# Altium schematic symbol library SI LABS EFM32TG230.SchLib: 1 symbol
Pins are listed as number, name and electrical type; pins without a type are passive.

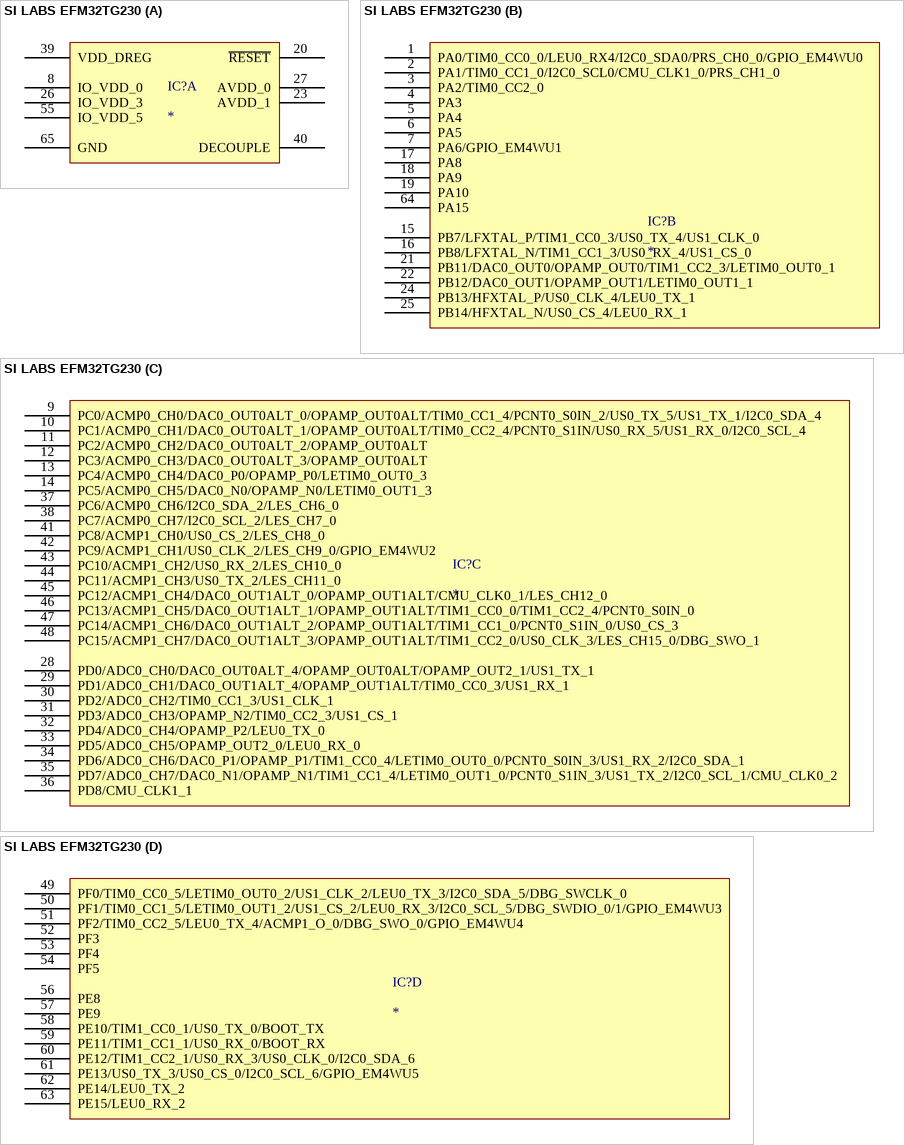
[diagram p0: symbol SI LABS EFM32TG230]

## SI LABS EFM32TG230
designator IC?
part A pins: 8 IO_VDD_0, 20 ~{RESET}, 23 AVDD_1, 26 IO_VDD_3, 27 AVDD_0, 39 VDD_DREG , 40 DECOUPLE, 55 IO_VDD_5, 65 GND
part B pins: 1 PA0/TIM0_CC0_0/LEU0_RX4/I2C0_SDA0/PRS_CH0_0/GPIO_EM4WU0, 2 PA1/TIM0_CC1_0/I2C0_SCL0/CMU_CLK1_0/PRS_CH1_0, 3 PA2/TIM0_CC2_0, 4 PA3, 5 PA4, 6 PA5, 7 PA6/GPIO_EM4WU1, 15 PB7/LFXTAL_P/TIM1_CC0_3/US0_TX_4/US1_CLK_0, 16 PB8/LFXTAL_N/TIM1_CC1_3/US0_RX_4/US1_CS_0, 17 PA8, 18 PA9, 19 PA10, 21 PB11/DAC0_OUT0/OPAMP_OUT0/TIM1_CC2_3/LETIM0_OUT0_1, 22 PB12/DAC0_OUT1/OPAMP_OUT1/LETIM0_OUT1_1, 24 PB13/HFXTAL_P/US0_CLK_4/LEU0_TX_1, 25 PB14/HFXTAL_N/US0_CS_4/LEU0_RX_1, 64 PA15
part C pins: 9 PC0/ACMP0_CH0/DAC0_OUT0ALT_0/OPAMP_OUT0ALT/TIM0_CC1_4/PCNT0_S0IN_2/US0_TX_5/US1_TX_1/I2C0_SDA_4, 10 PC1/ACMP0_CH1/DAC0_OUT0ALT_1/OPAMP_OUT0ALT/TIM0_CC2_4/PCNT0_S1IN/US0_RX_5/US1_RX_0/I2C0_SCL_4, 11 PC2/ACMP0_CH2/DAC0_OUT0ALT_2/OPAMP_OUT0ALT, 12 PC3/ACMP0_CH3/DAC0_OUT0ALT_3/OPAMP_OUT0ALT, 13 PC4/ACMP0_CH4/DAC0_P0/OPAMP_P0/LETIM0_OUT0_3, 14 PC5/ACMP0_CH5/DAC0_N0/OPAMP_N0/LETIM0_OUT1_3, 28 PD0/ADC0_CH0/DAC0_OUT0ALT_4/OPAMP_OUT0ALT/OPAMP_OUT2_1/US1_TX_1, 29 PD1/ADC0_CH1/DAC0_OUT1ALT_4/OPAMP_OUT1ALT/TIM0_CC0_3/US1_RX_1, 30 PD2/ADC0_CH2/TIM0_CC1_3/US1_CLK_1, 31 PD3/ADC0_CH3/OPAMP_N2/TIM0_CC2_3/US1_CS_1, 32 PD4/ADC0_CH4/OPAMP_P2/LEU0_TX_0, 33 PD5/ADC0_CH5/OPAMP_OUT2_0/LEU0_RX_0, 34 PD6/ADC0_CH6/DAC0_P1/OPAMP_P1/TIM1_CC0_4/LETIM0_OUT0_0/PCNT0_S0IN_3/US1_RX_2/I2C0_SDA_1, 35 PD7/ADC0_CH7/DAC0_N1/OPAMP_N1/TIM1_CC1_4/LETIM0_OUT1_0/PCNT0_S1IN_3/US1_TX_2/I2C0_SCL_1/CMU_CLK0_2, 36 PD8/CMU_CLK1_1, 37 PC6/ACMP0_CH6/I2C0_SDA_2/LES_CH6_0, 38 PC7/ACMP0_CH7/I2C0_SCL_2/LES_CH7_0, 41 PC8/ACMP1_CH0/US0_CS_2/LES_CH8_0, 42 PC9/ACMP1_CH1/US0_CLK_2/LES_CH9_0/GPIO_EM4WU2, 43 PC10/ACMP1_CH2/US0_RX_2/LES_CH10_0, 44 PC11/ACMP1_CH3/US0_TX_2/LES_CH11_0, 45 PC12/ACMP1_CH4/DAC0_OUT1ALT_0/OPAMP_OUT1ALT/CMU_CLK0_1/LES_CH12_0, 46 PC13/ACMP1_CH5/DAC0_OUT1ALT_1/OPAMP_OUT1ALT/TIM1_CC0_0/TIM1_CC2_4/PCNT0_S0IN_0, 47 PC14/ACMP1_CH6/DAC0_OUT1ALT_2/OPAMP_OUT1ALT/TIM1_CC1_0/PCNT0_S1IN_0/US0_CS_3, 48 PC15/ACMP1_CH7/DAC0_OUT1ALT_3/OPAMP_OUT1ALT/TIM1_CC2_0/US0_CLK_3/LES_CH15_0/DBG_SWO_1
part D pins: 49 PF0/TIM0_CC0_5/LETIM0_OUT0_2/US1_CLK_2/LEU0_TX_3/I2C0_SDA_5/DBG_SWCLK_0, 50 PF1/TIM0_CC1_5/LETIM0_OUT1_2/US1_CS_2/LEU0_RX_3/I2C0_SCL_5/DBG_SWDIO_0/1/GPIO_EM4WU3, 51 PF2/TIM0_CC2_5/LEU0_TX_4/ACMP1_O_0/DBG_SWO_0/GPIO_EM4WU4, 52 PF3, 53 PF4, 54 PF5, 56 PE8, 57 PE9, 58 PE10/TIM1_CC0_1/US0_TX_0/BOOT_TX, 59 PE11/TIM1_CC1_1/US0_RX_0/BOOT_RX, 60 PE12/TIM1_CC2_1/US0_RX_3/US0_CLK_0/I2C0_SDA_6, 61 PE13/US0_TX_3/US0_CS_0/I2C0_SCL_6/GPIO_EM4WU5, 62 PE14/LEU0_TX_2, 63 PE15/LEU0_RX_2